# Altium footprint library PCB - MECHANICAL - WURTH 74651194.PCBLIB: 1 footprints
Each footprint in its own frame and in the unit in brackets; x right, y up, seen from the top. Pads: shape width x height; smd on the part's side, far side on the other; paste and mask are expansions set on the pad; w line width, h text height; cw(c..) or ccw(c..) is an arc to the next point about the centre after c.
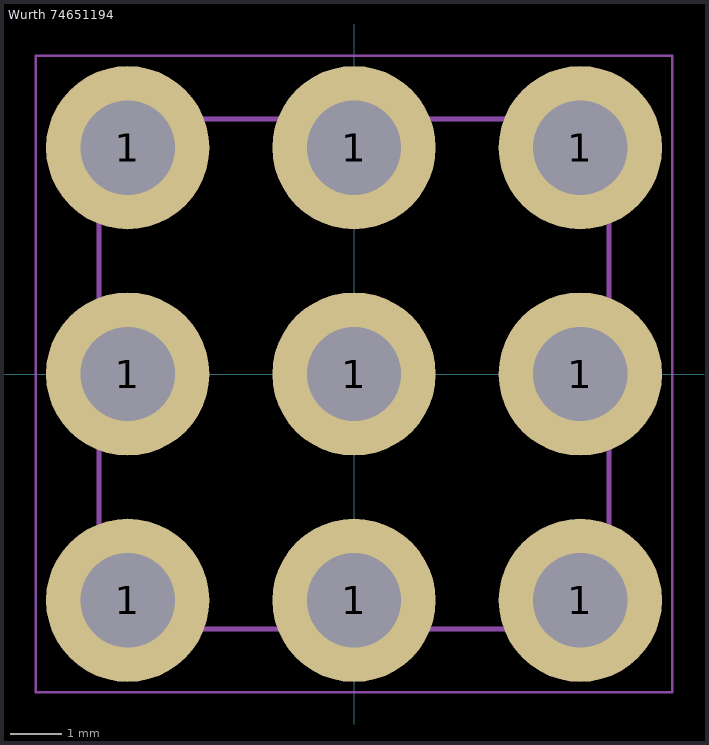
[diagram p0: the footprint, top view; thin cyan lines are the x and y axes]

## Wurth 74651194 [mm] "Shank, THR, 9 pins, 10x10mm, M4, thread 5mm"
height 8.5
pads (9):
  round 3.2 hole 1.85: 1(-4.435,-4.435) 1(-4.435,0) 1(-4.435,4.435) 1(0,-4.435) 1(0,0) 1(0,4.435) 1(4.435,-4.435) 1(4.435,0) 1(4.435,4.435)
Top Paste:
  drawing of 9 lines, arcs and shapes, not listed
Top Assembly:
  lines w0.05: -0.5,0 0.5,0 ; 0,-0.5 0,0.5
  lines w0.1: -5,-5 5,-5 5,5 -5,5 -5,-5
Top Courtyard:
  lines w0.05: -6.235,-6.235 -6.235,6.235 6.235,6.235 6.235,-6.235 -6.235,-6.235
3D body "Wurth 74651194.step": height 9, standoff -2, extent -5,-5.01 5,4.99